# EAGLE library part TLV320AIC33IRGZ (library NewSDR)
Texas Instruments Stereo Audio Codec for Portable Telephony
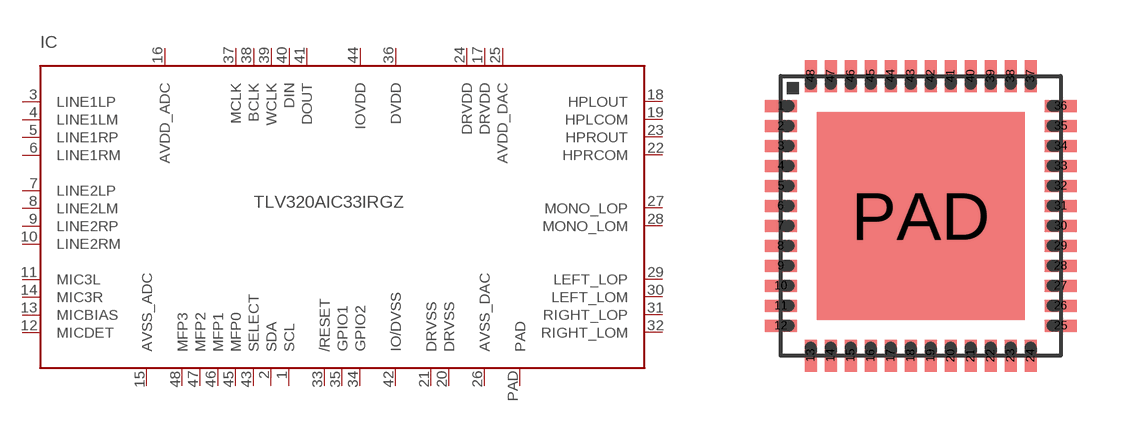
[diagram p86: symbol with the pads of QFN48; footprint QFN48]

Designator prefix IC

## TLV320AIC33IRGZ  [QFN48]
1  SCL  in
2  SDA
3  LINE1LP  pas
4  LINE1LM  pas
5  LINE1RP  pas
6  LINE1RM  pas
7  LINE2LP  pas
8  LINE2LM  pas
9  LINE2RP  pas
10  LINE2RM  pas
11  MIC3L  pas
12  MICDET  pas
13  MICBIAS  pas
14  MIC3R  pas
15  AVSS_ADC  pwr
16  AVDD_ADC  pwr
17  DRVDD  pwr
18  HPLOUT  pas
19  HPLCOM  pas
20  DRVSS  pwr
21  DRVSS  pwr
22  HPRCOM  pas
23  HPROUT  pas
24  DRVDD  pwr
25  AVDD_DAC  pwr
26  AVSS_DAC  pwr
27  MONO_LOP  pas
28  MONO_LOM  pas
29  LEFT_LOP  pas
30  LEFT_LOM  pas
31  RIGHT_LOP  pas
32  RIGHT_LOM  pas
33  /RESET  in
34  GPIO2
35  GPIO1
36  DVDD  pwr
37  MCLK
38  BCLK
39  WCLK
40  DIN  in
41  DOUT  out
42  IO/DVSS  pwr
43  SELECT  in
44  IOVDD  pwr
45  MFP0  in
46  MFP1  in
47  MFP2  in
48  MFP3  in
PAD  PAD  pwr

## Footprint QFN48 (pad centres in mm)
48-pin QFN
smd 0.8 x 0.3: 1 -3.5,2.75; 2 -3.5,2.25; 3 -3.5,1.75; 4 -3.5,1.25; 5 -3.5,0.75; 6 -3.5,0.25; 7 -3.5,-0.25; 8 -3.5,-0.75; 9 -3.5,-1.25; 10 -3.5,-1.75; 11 -3.5,-2.25; 12 -3.5,-2.75; 25 3.5,-2.75; 26 3.5,-2.25; 27 3.5,-1.75; 28 3.5,-1.25; 29 3.5,-0.75; 30 3.5,-0.25; 31 3.5,0.25; 32 3.5,0.75; 33 3.5,1.25; 34 3.5,1.75; 35 3.5,2.25; 36 3.5,2.75
smd 0.3 x 0.8: 13 -2.75,-3.5; 14 -2.25,-3.5; 15 -1.75,-3.5; 16 -1.25,-3.5; 17 -0.75,-3.5; 18 -0.25,-3.5; 19 0.25,-3.5; 20 0.75,-3.5; 21 1.25,-3.5; 22 1.75,-3.5; 23 2.25,-3.5; 24 2.75,-3.5; 37 2.75,3.5; 38 2.25,3.5; 39 1.75,3.5; 40 1.25,3.5; 41 0.75,3.5; 42 0.25,3.5; 43 -0.25,3.5; 44 -0.75,3.5; 45 -1.25,3.5; 46 -1.75,3.5; 47 -2.25,3.5; 48 -2.75,3.5
smd 5.2 x 5.2: PAD 0,0